# Altium footprint library Train2.PCBLIB: 223 footprints (part 8 of 14)
Each footprint in its own frame and in the unit in brackets; x right, y up, seen from the top. Pads: shape width x height; smd on the part's side, far side on the other; paste and mask are expansions set on the pad; w line width, h text height; cw(c..) or ccw(c..) is an arc to the next point about the centre after c.
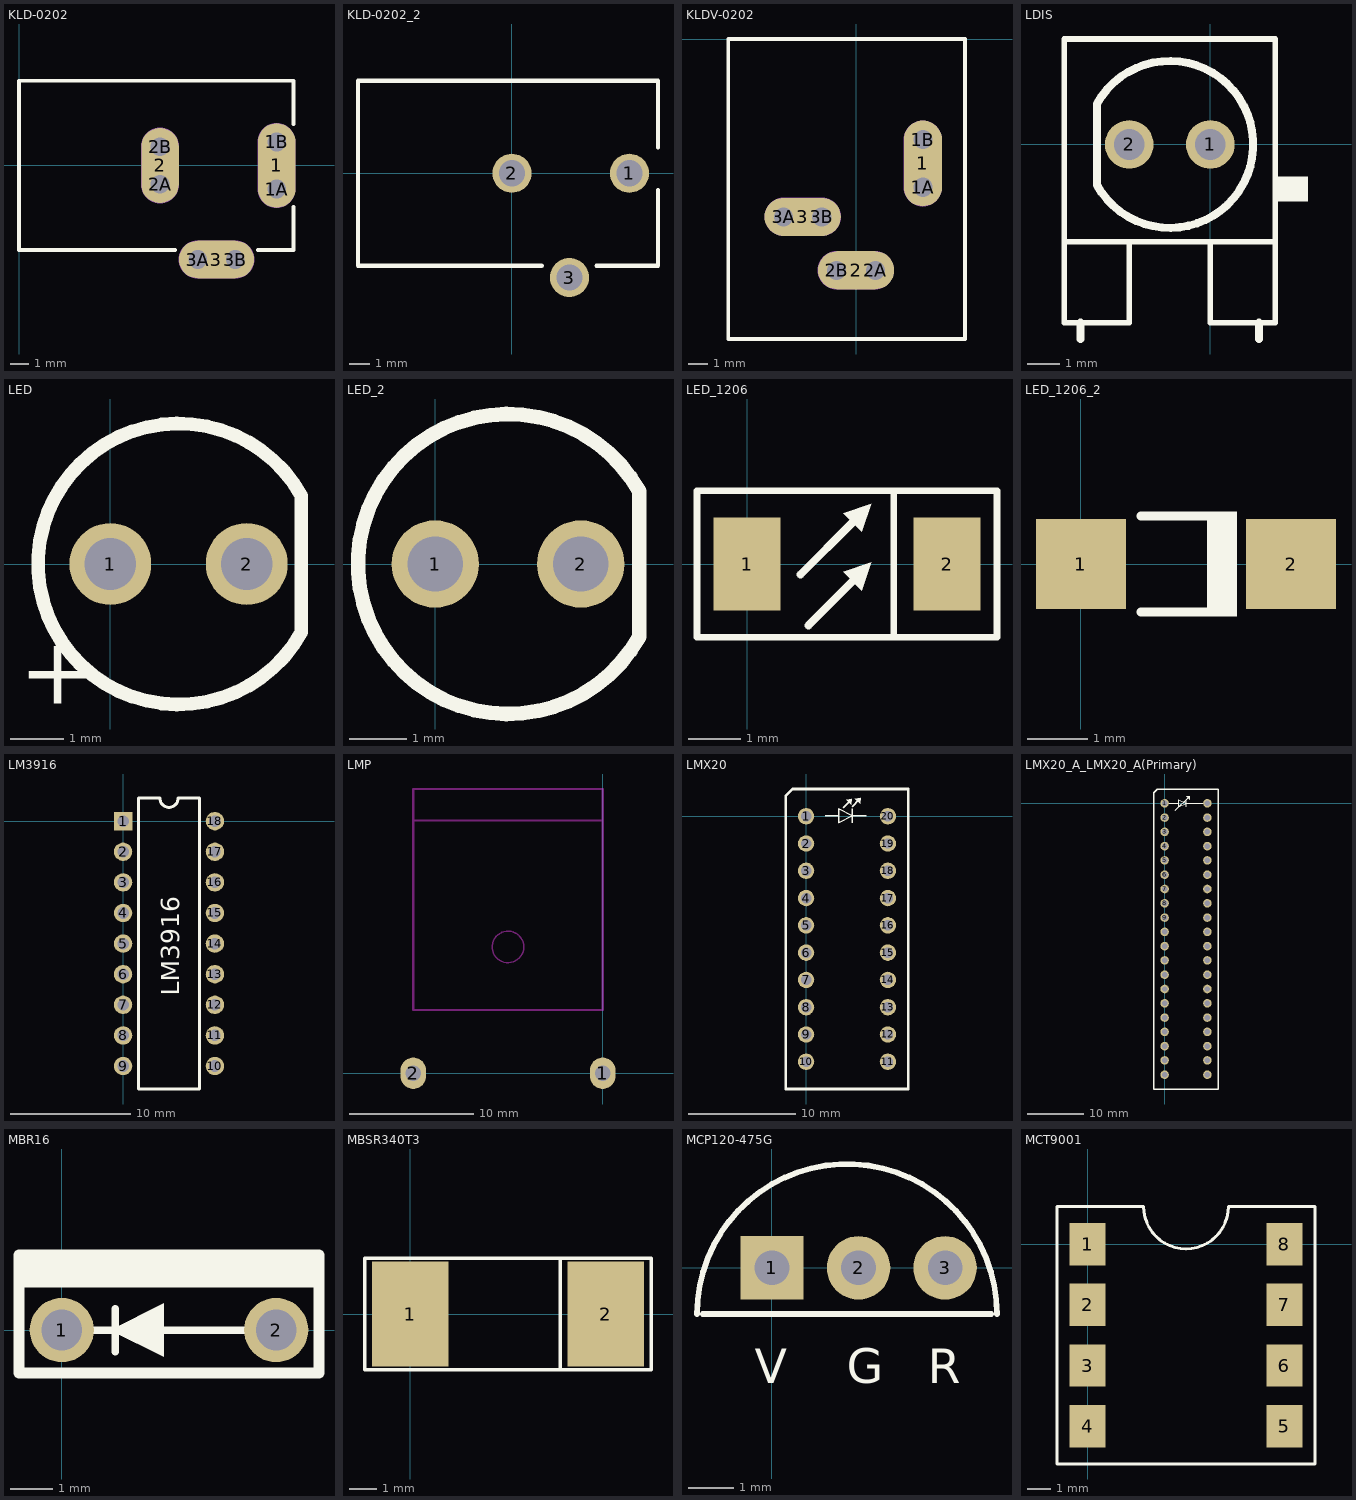
[diagram p7: the footprints below, top view; thin cyan lines are the x and y axes]

## KLD-0202 [mm] "DC Power Jack, 2.5mm, KLD Series, PCB Mount"
pads (9):
  oval 2x4.5 all layers, no hole: 1(13.7,0)
  round 1.5 hole 1: 1A(13.7,-1.25) 1B(13.7,1.25) 2A(7.5,-1) 2B(7.5,1) 3A(9.5,-5) 3B(11.5,-5)
  oval 2x4 all layers, no hole: 2(7.5,0)
  oval 4x2 all layers, no hole: 3(10.5,-5)
Top Overlay:
  lines w0.2: 8.3,-4.5 0,-4.5 0,4.5 14.6,4.5 14.6,2.2 ; 12.7,-4.5 14.6,-4.5 14.6,-2.2
Mechanical 1:
  lines w1: 9.5,-5 11.5,-5 ; 13.7,-1.25 13.7,1.25
  text "Alert PCB fab to slot details" at 0.286,6.066 h0.3
  text "Assign keep-out area to slot" at 0.286,6.566 h0.3
  text "Mech 1 - Slot cut-out" at 0.286,5.566 h0.3
  text "Mech 2 - Clearance, move to internal plane if present" at 0.286,5.066 h0.3
Mechanical 1 keep-out:
  lines w1: 7.5,-1 7.5,1
Mechanical 2:
  lines w2.016: 7.5,-1 7.5,1 ; 9.5,-5 11.5,-5 ; 13.7,-1.25 13.7,1.25

## KLD-0202_2 [mil] "DC Power Jack, 2.5mm, KLD Series, PCB Mount"
height 29.53
pads (3):
  round 75 hole 50: 1(225,0) 2(0,0) 3(110,-200)
Top Overlay:
  lines w7.87: 57,-177.17 -295,-177.17 -295,177.17 279.8,177.17 279.8,49 ; 162,-177.17 279.8,-177.17 279.8,-32
3D body "SW3dPS-PowerJack-2.5x5.7mm.STEP": height 433.07, standoff -137.8, extent -344.43,-190.04 254,180.04

## KLDV-0202 [mm] "DC Power Jack, 2.5mm, KLD Series, PCB Mount, Vertical"
pads (9):
  oval 2x4.5 all layers, no hole: 1(3.5,-6.5)
  round 1.5 hole 1: 1A(3.5,-7.75) 1B(3.5,-5.25) 2A(1.016,-12.1) 2B(-1.016,-12.1) 3A(-3.8,-9.3) 3B(-1.8,-9.3)
  oval 4x2 all layers, no hole: 2(0,-12.1) 3(-2.8,-9.3)
Top Overlay:
  lines w0.2: 5.7,-15.7 -6.7,-15.7 -6.7,0.02 5.71,0.02 5.71,-15.7
Mechanical 1:
  lines w1: -3.8,-9.3 -1.8,-9.3 ; -1.016,-12.1 0.984,-12.1 ; 3.5,-7.75 3.5,-5.25
  text "Alert PCB fab to slot details" at -6.404,1.786 h0.3
  text "Assign keep-out area to slot" at -6.404,2.286 h0.3
  text "Mech 1 - Slot cut-out" at -6.404,1.286 h0.3
  text "Mech 2 - Clearance, move to internal plane if present" at -6.404,0.786 h0.3
Mechanical 2:
  lines w2.016: -3.8,-9.3 -1.8,-9.3 ; -1.016,-12.1 0.984,-12.1 ; 3.5,-7.75 3.5,-5.25

## LDIS [mil]
pads (2):
  round 60 hole 38: 1(0,0) 2(-100,0)
Top Overlay:
  region: 80,-70 100,-70 120,-70 120,-60 120,-40 100,-40 80,-40
  lines w7: -180,-120 80,-120 ; -100,-120 -100,-220 -180,-220 -180,130 80,130 80,-220 0,-220 0,-120
  lines w10: -160,-240 -160,-220 ; -140,-50 -140,50 ; -139.96,-50.07 ccw(c-50,0) -139.96,50.07 ; 60,-240 60,-220

## LED [mil]
pads (2):
  round 60 hole 38: 1(0,0) 2(100,0)
Top Overlay:
  lines w10: 139.96,-50.07 cw(c50,0) 139.96,50.07 ; 140,-50 140,50
  text "+" at -66.93,-102.36 h49.21

## LED_2 [mil]
pads (2):
  round 60 hole 38: 1(0,0) 2(100,0)
Top Overlay:
  lines w10: 139.96,-50.07 cw(c50,0) 139.96,50.07 ; 140,-50 140,50
3D body "LED 5MM.STEP": height 347.88, standoff -782.04, extent -67.06,-117.13 154,117.13

## LED_1206 [mil]
pads (2):
  rect 50x70 smd: 1(0,0) 2(150,0)
Top Overlay:
  region: 93.31,1.31 86.24,-19.9 72.1,-5.76
  region: 93.31,45.31 86.24,24.1 72.1,38.24
  lines w5: 110,-55 110,55.12 ; -37.5,-55 187.5,-55 187.5,55 -37.5,55 -37.5,-55
  lines w6: 40,-8 79.17,31.17 ; 46,-46 79.17,-12.83

## LED_1206_2 [mm]
pads (2):
  rect 1.5x1.5 smd: 1(0,0) 2(3.5,0)
Top Overlay:
  rectangle: 2.1,-0.875 2.6,0.875
  lines w0.15: 1,-0.8 2.487,-0.8 ; 1,0.8 2.487,0.8
3D body "SW3dPS-LED1206R.STEP": height 1.11, standoff -0.4, extent 0.275,-0.8 3.475,0.8

## LM3916 [mil]
pads (18):
  rect 60x60 hole 38: 1(0,0)
  round 60 hole 38: 2(0,-100) 3(0,-200) 4(0,-300) 5(0,-400) 6(0,-500) 7(0,-600) 8(0,-700) 9(0,-800) 10(300,-800) 11(300,-700) 12(300,-600) 13(300,-500) 14(300,-400) 15(300,-300) 16(300,-200) 17(300,-100) 18(300,0)
Top Overlay:
  lines w10: 50,-875 250,-875 250,75 180,75 cw(c150,75) 120,75 50,75 50,-875
  text "LM3916" at 184,-570 h60

## LMP [mil]
pads (2):
  oval 80x100 hole 50: 1(0,0) 2(-600,0)
Keep-Out Layer:
  circle w5: c-300,400 r50
  lines w7: -600,800 0,800 ; -600,200 -600,900 0,900 0,200 -600,200

## LMX20 [mil]
pads (20):
  round 60 hole 38: 1(0,0) 2(0,-100) 3(0,-200) 4(0,-300) 5(0,-400) 6(0,-500) 7(0,-600) 8(0,-700) 9(0,-800) 10(0,-900) 11(300,-900) 12(300,-800) 13(300,-700) 14(300,-600) 15(300,-500) 16(300,-400) 17(300,-300) 18(300,-200) 19(300,-100) 20(300,0)
Top Overlay:
  region: 178.75,64.75 197.75,45.75 200,68.5
  region: 146.75,60.75 165.75,41.75 168,64.5
  lines w5: 70,2 120,2 ; 136.5,31.5 163,58 ; 168.5,35.5 195,62 ; 170,-23 170,27 ; 220,2 170,2 ; 170,2 120,27 120,-23 170,2
  lines w10: -75,-1000 375,-1000 375,100 -50,100 -75,75 -75,-1000

## LMX20_A_LMX20_A(Primary) [mil]
pads (40):
  round 60 hole 38: 1(0,0) 2(0,-100) 3(0,-200) 4(0,-300) 5(0,-400) 6(0,-500) 7(0,-600) 8(0,-700) 9(0,-800) 10(0,-900) 11(0,-1000) 12(0,-1100) 13(0,-1200) 14(0,-1300) 15(0,-1400) 16(0,-1500) 17(0,-1600) 18(0,-1700) 19(0,-1800) 20(0,-1900) 21(300,0) 22(300,-700) 23(300,-800) 24(300,-100) 25(300,-900) 26(300,-1000) 27(300,-200) 28(300,-1100) 29(300,-1200) 30(300,-300) 31(300,-1300) 32(300,-1400) 33(300,-400) 34(300,-1500) 35(300,-1600) 36(300,-500) 37(300,-1700) 38(300,-1800) 39(300,-600) 40(300,-1900)
Top Overlay:
  region: 150,50 175,25 175,50
  lines w5: 0,0 75,0 ; 50,0 100,0 ; 75,-50 175,50 ; 150,-25 150,25 ; 300,0 200,0 150,0 ; 150,0 100,-25 100,25 150,0
  lines w10: -75,-2000 -75,75 -50,100 375,100 375,-2000 -75,-2000

## MBR16 [mil]
pads (2):
  round 60 hole 38: 1(0,0) 2(200,0)
Top Overlay:
  region: 95,-25 95,25 45,0
  region: -40,70 -40,40 240,40 240,70
  lines w7: 30,0 45,0 170,0 ; 50,-20 50,20
  lines w10: -40,-40 -40,70 240,70 240,-40 -40,-40

## MBSR340T3 [mil]
pads (2):
  rect 110x150 smd: 1(0,0) 2(280,0)
Top Overlay:
  lines w5: 215,-80 215,80 ; -65,-80 345,-80 345,80 -65,80 -65,-80

## MCP120-475G [mil]
pads (3):
  rect 55x55 hole 30: 1(0,0)
  round 55 hole 30: 2(75,0) 3(150,0)
Top Overlay:
  lines w5: -65,-40 cw(c65,-40) 195,-40 ; -60,-40 190,-40
  text "G" at 65,-100 h30
  text "R" at 135,-100 h30
  text "V" at -15,-100 h30

## MCT9001 [mil]
pads (8):
  rect 60x70 smd: 1(0,0) 2(0,-100) 3(0,-200) 4(0,-300) 5(325,-300) 6(325,-200) 7(325,-100) 8(325,0)
Top Overlay:
  lines w5: -50,-362.5 -50,62.5 92.5,62.5 ccw(c162.5,62.5) 232.5,62.5 375,62.5 375,-362.5 -50,-362.5